# EAGLE library part BMS-3S (library FansElectronics-Modul)
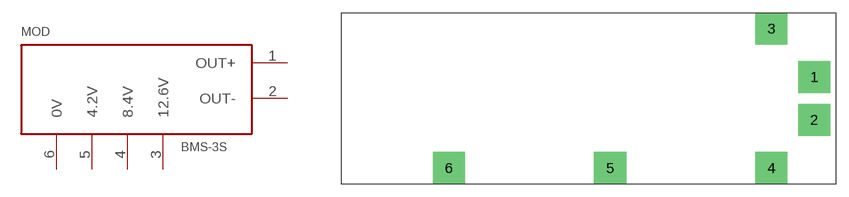
[diagram p26: symbol with the pads of BMS-3S; footprint BMS-3S]

Designator prefix MOD

## BMS-3S  [BMS-3S]
1  OUT+  pwr
2  OUT-  pwr
3  12.6V  pwr
4  8.4V  pwr
5  4.2V  pwr
6  0V  pwr

## Footprint BMS-3S (pad centres in mm)
drill 2.2 pad 3.81 square: 1 10.16,5.08; 2 10.16,0; 3 5.08,10.795; 4 5.08,-5.715; 5 -13.97,-5.715; 6 -33.02,-5.715